# EAGLE library part ESP8266-01 (library IoT-library)
ESP8266-01 is a 3.3V serial to WiFi and microcontroller.
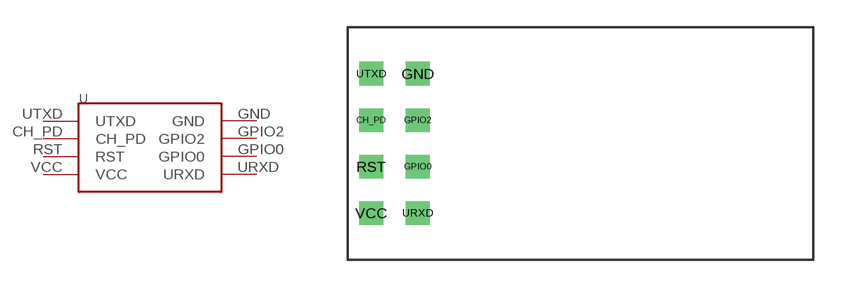
[diagram p1: symbol with the pads of ESP8266-01; footprint ESP8266-01]

Designator prefix -

## ESP8266-01  [ESP8266-01]
CH_PD  CH_PD
GND  GND
GPIO0  GPIO0
GPIO2  GPIO2
RST  RST
URXD  URXD
UTXD  UTXD
VCC  VCC

## Footprint ESP8266-01 (pad centres in mm)
ESP8266-01
drill 0.8 square: CH_PD -3.81,1.27; GND -1.27,3.81; GPIO0 -1.27,-1.27; GPIO2 -1.27,1.27; RST -3.81,-1.27; URXD -1.27,-3.81; UTXD -3.81,3.81; VCC -3.81,-3.81